# Altium schematic symbol library Schlib1.SchLib: 11 symbols
Pins are listed as number, name and electrical type; pins without a type are passive.

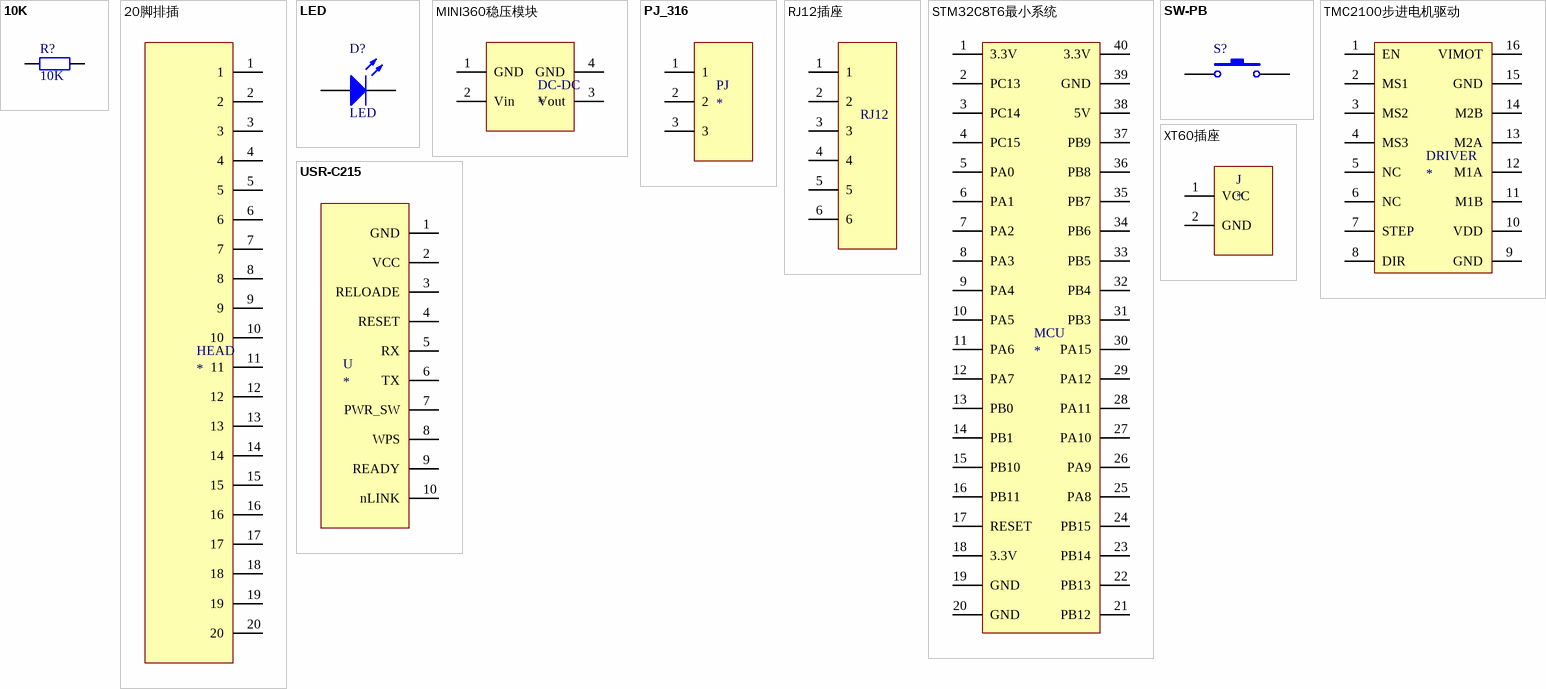
[diagram p0: symbols 10K to XT60插座]

## 10K
designator R?
Resistor; Published: 8-Jun-2000; LatestRevisionDate: 17-Jul-2002; LatestRevisionNote: Re-released for DXP Platform.; PackageReference: AXIAL-0.4; Publisher: Altium Limited; PackageDescription: Axial Device, Thru-Hole; 2 Leads; 0.4 in Pin Spacing
simulation model RESISTOR (Resistor)
signal-integrity model Res
footprint resistance
pins: 1, 2

## 20脚排插
designator HEAD
footprint SIP20
pins: 1, 2, 3, 4, 5, 6, 7, 8, 9, 10, 11, 12, 13, 14, 15, 16, 17, 18, 19, 20

## LED
designator D?
Typical INFRARED GaAs LED; Published: 8-Jun-2000; LatestRevisionDate: 08-Jul-2005; LatestRevisionNote: Mech Layer 1 removed.; PackageReference: LED-0; Publisher: Altium Limited; PackageDescription: LED; 2 Leads
footprint LED
pins: 1 A, 2 K

## MINI360稳压模块
designator DC-DC
footprint mini360
pins: 1 GND, 2 Vin, 3 Vout, 4 GND

## PJ_316
designator PJ
footprint PJ_316
pins: 1, 2, 3

## RJ12插座
designator RJ12
footprint RJ12
pins: 1, 2, 3, 4, 5, 6

## STM32C8T6最小系统
designator MCU
footprint DIP40
pins: 1 3.3V (power), 2 PC13, 3 PC14, 4 PC15, 5 PA0, 6 PA1, 7 PA2, 8 PA3, 9 PA4, 10 PA5, 11 PA6, 12 PA7, 13 PB0, 14 PB1, 15 PB10, 16 PB11, 17 RESET, 18 3.3V, 19 GND, 20 GND, 21 PB12, 22 PB13, 23 PB14, 24 PB15, 25 PA8, 26 PA9, 27 PA10, 28 PA11, 29 PA12, 30 PA15, 31 PB3, 32 PB4, 33 PB5, 34 PB6, 35 PB7, 36 PB8, 37 PB9, 38 5V, 39 GND, 40 3.3V

## SW-PB
designator S?
Switch; Published: 24-Mar-1999; LatestRevisionDate: 17-Jul-2002; LatestRevisionNote: Re-released for DXP Platform.; PackageReference: SPST-2; Publisher: Altium Limited; PackageDescription: Switch; 2 Leads
footprint KEY
pins: 1, 2

## TMC2100步进电机驱动
designator DRIVER
footprint DIP16
pins: 1 EN, 2 MS1, 3 MS2, 4 MS3, 5 NC, 6 NC, 7 STEP, 8 DIR, 9 GND, 10 VDD (power), 11 M1B, 12 M1A, 13 M2A, 14 M2B, 15 GND, 16 VIMOT

## USR-C215
designator U
footprint USR_C215
pins: 1 GND, 2 VCC, 3 RELOADE, 4 RESET, 5 RX, 6 TX, 7 PWR_SW, 8 WPS, 9 READY, 10 nLINK

## XT60插座
designator J
footprint XT60
pins: 1 VCC, 2 GND